# Altium schematic symbol library DRV8353RSRGZR.SchLib: 1 symbol
Pins are listed as number, name and electrical type; pins without a type are passive.

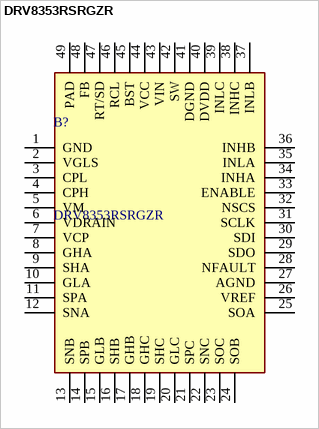
[diagram p0: symbol DRV8353RSRGZR]

## DRV8353RSRGZR
designator B?
Motor / Motion / Ignition Controllers & Drivers 100-V Three-Phase Smart Gate Driver With Buck Regulator and Three Current Shunt Amplifiers 48-VQFN -40 to 125; Manufacturer_Name: Texas Instruments; Geometry.Height: 1mm; RS Part Number: *; RS Price/Stock: *; Manufacturer_Part_Number: DRV8353RSRGZR; Datasheet Link: http://www.ti.com/lit/ds/symlink/drv8353r.pdf
footprint QFN50P700X700X100-49N-D
pins: 1 GND, 2 VGLS, 3 CPL, 4 CPH, 5 VM, 6 VDRAIN, 7 VCP, 8 GHA, 9 SHA, 10 GLA, 11 SPA, 12 SNA, 13 SNB, 14 SPB, 15 GLB, 16 SHB, 17 GHB, 18 GHC, 19 SHC, 20 GLC, 21 SPC, 22 SNC, 23 SOC, 24 SOB, 25 SOA, 26 VREF, 27 AGND, 28 NFAULT, 29 SDO, 30 SDI, 31 SCLK, 32 NSCS, 33 ENABLE, 34 INHA, 35 INLA, 36 INHB, 37 INLB, 38 INHC, 39 INLC, 40 DVDD, 41 DGND, 42 SW, 43 VIN, 44 VCC, 45 BST, 46 RCL, 47 RT/SD, 48 FB, 49 PAD